# Altium footprint library power.PcbLib: 38 footprints (part 1 of 3)
Each footprint in its own frame and in the unit in brackets; x right, y up, seen from the top. Pads: shape width x height; smd on the part's side, far side on the other; paste and mask are expansions set on the pad; w line width, h text height; cw(c..) or ccw(c..) is an arc to the next point about the centre after c.
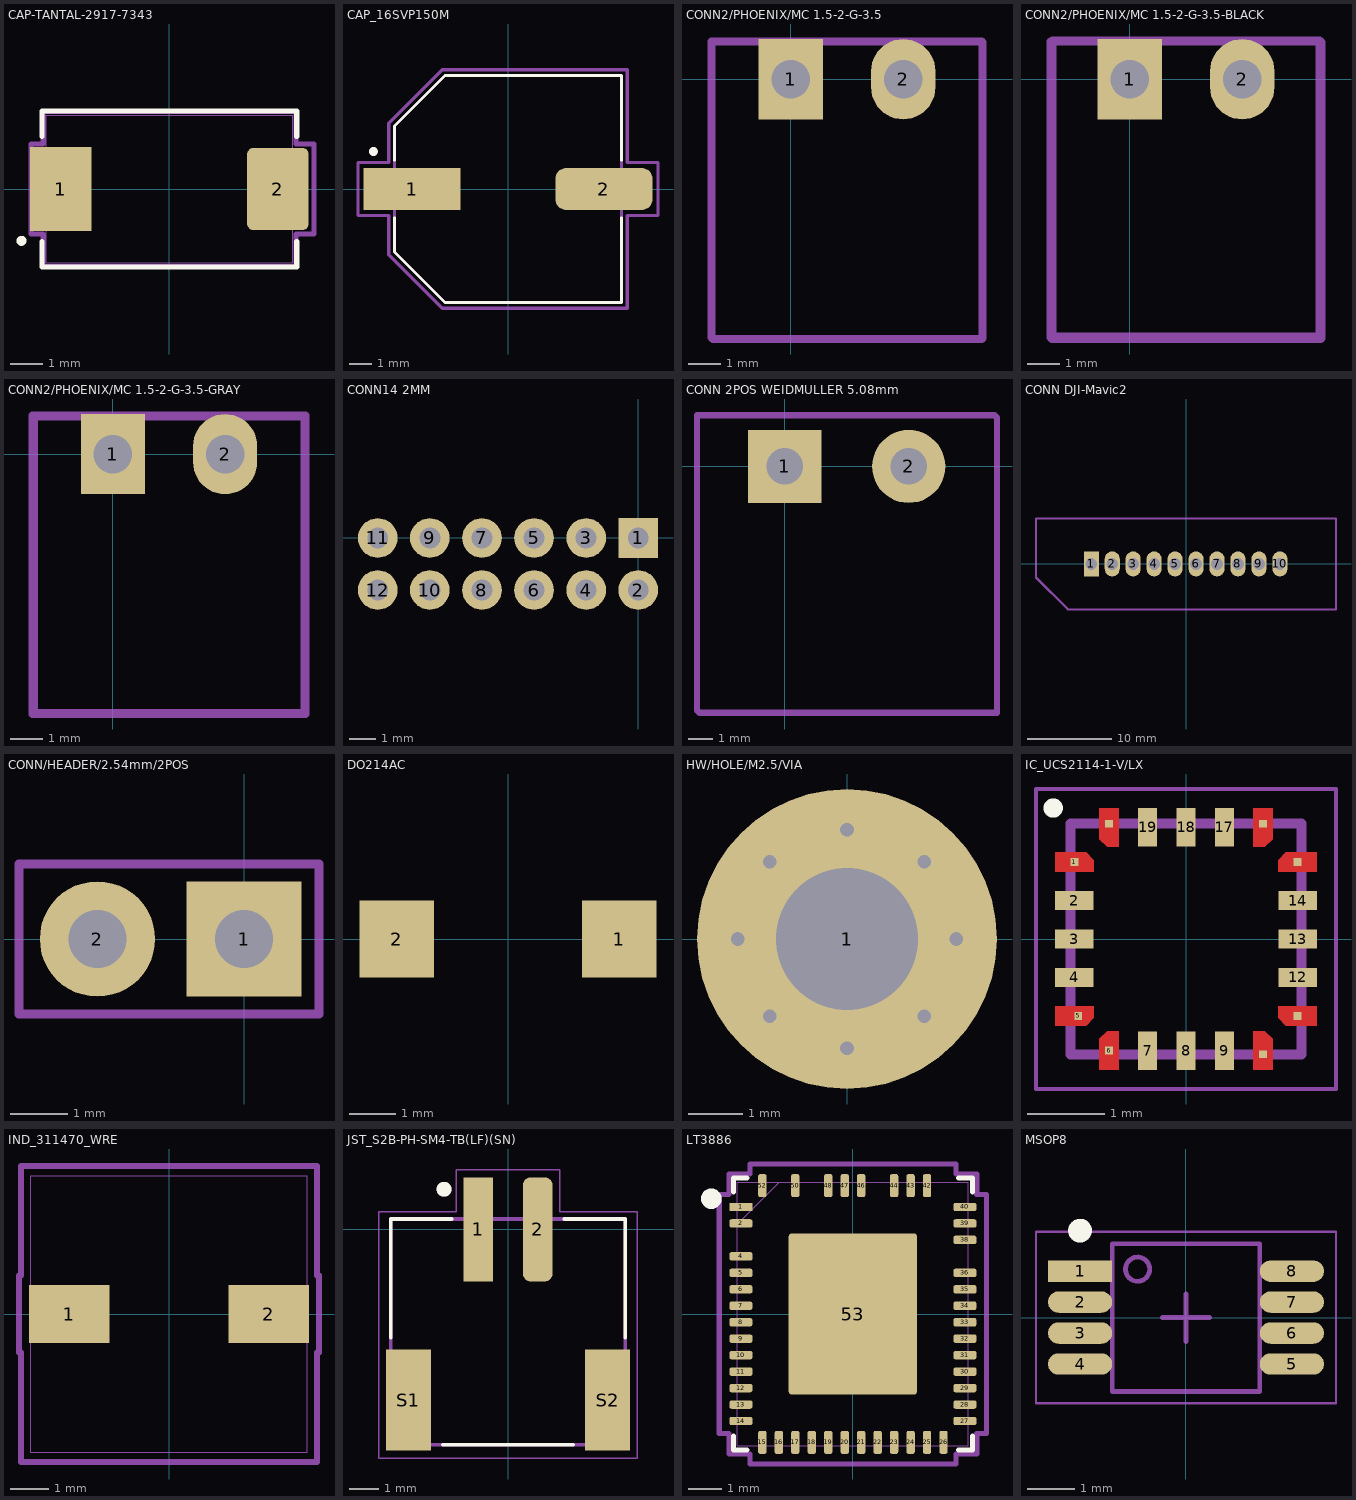
[diagram p0: the footprints below, top view; thin cyan lines are the x and y axes]

## CAP-TANTAL-2917-7343 [mm]
pads (2):
  rect 1.87x2.541 smd paste+0 mask+0: 1(-3.3,0)
  rrect20% 1.87x2.5 smd paste+0 mask+0: 2(3.3,0)
Top Overlay:
  circle w0.152: c-4.496,-1.575 r0.076
  lines w0.152: -3.873,-1.598 -3.873,-2.375 3.873,-2.375 3.873,-1.598 ; -3.873,1.598 -3.873,2.375 3.873,2.375 3.873,1.598
Top 3D Body:
  circle w0: c-3.492,0 r0.076
  lines w0.025: -3.746,-2.248 -3.746,2.248 3.746,2.248 3.746,-2.248 -3.746,-2.248
Top Courtyard:
  lines w0.152: -4.2,-1.372 -3.848,-1.372 -3.848,-2.349 3.848,-2.349 3.848,-1.372 4.4,-1.372 4.4,1.372 3.848,1.372 3.848,2.349 -3.848,2.349 -3.848,1.372 -4.2,1.372 -4.2,-1.372
Top Designator:
  text ".Designator" at -4.199,0.167 h0.7
3D body "User Library-AVX_D_CASE.step": height 3.01, standoff 0, extent -3.7,-2.225 3.7,2.225

## CAP_16SVP150M [mm]
pads (2):
  rect 4.4x1.9 smd: 1(-4.35,0)
  rrect50% 4.4x1.9 smd: 2(4.35,0)
Top Overlay:
  circle w0.2: c-6.1,1.7 r0.1
  lines w0.127: -5.15,-1.3 -5.15,-2.85 -2.85,-5.15 5.15,-5.15 5.15,-1.3 ; -5.15,1.3 -5.15,2.85 -2.85,5.15 5.15,5.15 5.15,1.3
Top 3D Body:
  circle w0.2: c-6.1,1.7 r0.1
  lines w0.127: -5.15,-2.85 -2.85,-5.15 5.15,-5.15 5.15,5.15 -2.85,5.15 -5.15,2.85 -5.15,-2.85
Top Courtyard:
  lines w0.15: -6.8,-1.2 -5.4,-1.2 -5.4,-2.975 -2.975,-5.4 5.4,-5.4 5.4,-1.2 6.8,-1.2 6.8,1.2 5.4,1.2 5.4,5.4 -2.975,5.4 -5.4,2.975 -5.4,1.2 -6.8,1.2 -6.8,-1.2
Top Designator:
  text ".Designator" at -7.618,-0.508 h1.52
3D body "16SVP150M.STEP": height 7.9, standoff 0, extent -5.5,-5.15 5.5,5.15

## CONN2/PHOENIX/MC 1.5-2-G-3.5 [mm]
pads (2):
  rect 2x2.5 hole 1.2: 1(0,0)
  oval 2x2.5 hole 1.2: 2(3.5,0)
Mechanical 11:
  lines w0.254: -2.464,-8.026 -2.413,-8.077 ; 5.944,-8.077 5.969,-8.052 ; 5.944,1.168 5.969,1.143
Top Courtyard:
  lines w0.254: -2.464,-8.026 -2.464,1.168 ; -2.413,-8.077 5.944,-8.077 ; -2.413,1.168 5.944,1.168 ; 5.969,-8.052 5.969,1.143
Top Designator:
  text ".Designator" at -5.865,-3.934 h1.52
3D body "pxc_1844210_05_MC-1-5-2-G-3-5_3D.stp": height 7.25, standoff -3.4, extent -2.413,-8.029 5.987,1.171

## CONN2/PHOENIX/MC 1.5-2-G-3.5-BLACK [mm]
pads (2):
  rect 2x2.5 hole 1.2: 1(0,0)
  oval 2x2.5 hole 1.2: 2(3.5,0)
Mechanical 11:
  lines w0.254: -2.464,-8.026 -2.413,-8.077 ; 5.944,-8.077 5.969,-8.052 ; 5.944,1.168 5.969,1.143
Top 3D Body:
  lines w0.254: -2.4,-8 5.9,-8 5.9,1.2 -2.4,1.2 -2.4,-8
Top Courtyard:
  lines w0.254: -2.464,-8.026 -2.464,1.168 ; -2.413,-8.077 5.944,-8.077 ; -2.413,1.168 5.944,1.168 ; 5.969,-8.052 5.969,1.143
Top Designator:
  text ".Designator" at -1.746,-3.66 h0.7
3D body "pxc_1844210_05_MC-1-5-2-G-3-5_3Dblack.STEP": height 7.25, standoff -3.4, extent -2.439,-8 5.961,1.2

## CONN2/PHOENIX/MC 1.5-2-G-3.5-GRAY [mm]
pads (2):
  rect 2x2.5 hole 1.2: 1(0,0)
  oval 2x2.5 hole 1.2: 2(3.5,0)
Mechanical 11:
  lines w0.254: -2.464,-8.026 -2.413,-8.077 ; 5.944,-8.077 5.969,-8.052 ; 5.944,1.168 5.969,1.143
Top 3D Body:
  lines w0.254: -2.5,-8.1 6,-8.1 6,1.2 -2.5,1.2 -2.5,-8.1
Top Courtyard:
  lines w0.254: -2.464,-8.026 -2.464,1.168 ; -2.413,-8.077 5.944,-8.077 ; -2.413,1.168 5.944,1.168 ; 5.969,-8.052 5.969,1.143
Top Designator:
  text ".Designator" at -1.746,-3.66 h0.7
3D body "pxc_1844210_05_MC-1-5-2-G-3-5_3D.STEP": height 7.25, standoff -3.4, extent -2.5,-8 5.9,1.2

## CONN14 2MM [mm] "98414-G06-12ULF"
pads (12):
  rect 1.524x1.524 hole 0.8: 1(0,0)
  round 1.524 hole 0.8: 2(0,-2) 3(-2,0) 4(-2,-2) 5(-4,0) 6(-4,-2) 7(-6,0) 8(-6,-2) 9(-8,0) 10(-8,-2) 11(-10,0) 12(-10,-2)
Top Designator:
  text ".Designator" at -12.618,-1.558 h1.52
3D body "AMPHENOL s98414-x06-12LF.STEP": height 5.85, standoff -2.5, extent -12,-4.1 2,2

## CONN 2POS WEIDMULLER 5.08mm [mm]
pads (2):
  rect 3x3 hole 1.5: 1(0,0)
  round 3 hole 1.5: 2(5.08,0)
Top Courtyard:
  lines w0.254: -3.6,-10 -3.5,-10.1 8.7,-10.1 8.7,2 8.6,2.1 -3.6,2.1 -3.6,-10
Top Designator:
  text ".Designator" at -0.949,-4.233 h0.7
3D body "1241060000.stp": height 9.4, standoff -3.2, extent -3.6,-10 8.56,2

## CONN DJI-Mavic2 [mm]
pads (10):
  rect 1.8x3 hole 1.4 mask+0.1: 1(-11.3,0)
  oval 1.8x3 hole 1.4 mask+0.1: 2(-8.8,0) 3(-6.3,0) 4(-3.8,0) 5(-1.3,0) 6(1.2,0) 7(3.7,0) 8(6.2,0) 9(8.7,0) 10(11.2,0)
Mechanical 11:
  text ".designator" at -13.6,-4.9 h1
Top 3D Body:
  lines w0.2: -17.9,-1.55 -14,-5.45 17.9,-5.45 17.9,5.425 -17.9,5.425 -17.9,-1.55
Top Courtyard:
  lines w0.2: -17.9,-1.7 -14.15,-5.45 17.9,-5.45 17.9,5.425 -17.9,5.425 -17.9,-1.7
Top Designator:
  text ".Designator" at -7.318,-3.508 h1.52
3D body "MSD-DB05M-10P.STEP": height 7.5, standoff -3.5, extent -17.875,-5.325 17.925,5.375

## CONN/HEADER/2.54mm/2POS [mm]
pads (2):
  rect 2x2 hole 1: 1(0,0)
  round 2 hole 1: 2(-2.54,0)
Top Courtyard:
  lines w0.15: -3.9,-1.3 -3.9,1.3 1.3,1.3 1.3,-1.3 -3.9,-1.3
Top Designator:
  text ".Designator" at -4.799,1.867 h0.7
3D body "99887.STEP": height 8.38, standoff -2.54, extent -3.937,-1.27 1.27,1.27

## DO214AC [mm]
pads (2):
  rect 1.6x1.67 smd: 1(2.4,0) 2(-2.4,0)
Top Designator:
  text ".Designator" at -7.618,-0.508 h1.52
3D body "DO214AC.STEP": height 2.17, standoff 0.03, extent -2.629,-1.333 2.477,1.334

## HW/HOLE/M2.5/VIA [mm]
pads (1):
  round 5.5 hole 2.6: 1(0,0)
via -1.414,-1.414 diameter 0.6 hole 0.25
via 1.414,-1.414 diameter 0.6 hole 0.25
via 1.414,1.414 diameter 0.6 hole 0.25
via -1.414,1.414 diameter 0.6 hole 0.25
via -2,0 diameter 0.6 hole 0.25
via 0,-2 diameter 0.6 hole 0.25
via 2,0 diameter 0.6 hole 0.25
via 0,2 diameter 0.6 hole 0.25
Top Designator:
  text ".Designator" at -7.618,-0.508 h1.52

## IC_UCS2114-1-V/LX [mm]
pads (20):
  rect 0.1x0.1 smd paste-1 mask+0: 1(-1.45,1) 5(-1.4,-1) 6(-1,-1.45) 10(1,-1.5) 11(1.45,-1) 15(1.45,1) 16(1,1.5) 20(-1,1.5)
  rect 0.5x0.25 smd paste-1: 2(-1.45,0.5) 3(-1.45,0) 4(-1.45,-0.5) 12(1.45,-0.5) 13(1.45,0) 14(1.45,0.5)
  rect 0.25x0.5 smd paste-1: 7(-0.5,-1.45) 8(0,-1.45) 9(0.5,-1.45) 17(0.5,1.45) 18(0,1.45) 19(-0.5,1.45)
Top Layer:
  region: -1.2,1.025 -1.2,0.875 -1.7,0.875 -1.7,1.125 -1.3,1.125
  region: -0.875,1.2 -1.025,1.2 -1.125,1.3 -1.125,1.7 -0.875,1.7
  region: -0.875,-1.7 -1.125,-1.7 -1.125,-1.3 -1.025,-1.2 -0.875,-1.2
  region: -1.2,-1.025 -1.3,-1.125 -1.7,-1.125 -1.7,-0.875 -1.2,-0.875
  region: 1.7,-1.125 1.3,-1.125 1.2,-1.025 1.2,-0.875 1.7,-0.875
  region: 1.125,-1.3 1.125,-1.7 0.875,-1.7 0.875,-1.2 1.025,-1.2
  region: 1.125,1.3 1.025,1.2 0.875,1.2 0.875,1.7 1.125,1.7
  region: 1.7,0.875 1.2,0.875 1.2,1.025 1.3,1.125 1.7,1.125
Top Overlay:
  circle w0.2: c-1.727,1.702 r0.025
Top Paste:
  region: 1.65,-0.125 1.2,-0.125 1.2,0.125 1.65,0.125
  region: -0.875,1.25 -1.025,1.25 -1.125,1.35
  region: -0.875,1.2 -1.025,1.2 -1.125,1.3 -1.125,1.65 -0.875,1.65
  region: -1.2,1.025 -1.2,0.875 -1.65,0.875 -1.65,1.125 -1.3,1.125
  region: -1.2,-1.025 -1.3,-1.125 -1.65,-1.125 -1.65,-0.875 -1.2,-0.875
  region: -0.875,-1.65 -1.125,-1.65 -1.125,-1.3 -1.025,-1.2 -0.875,-1.2
  region: 1.125,-1.3 1.125,-1.65 0.875,-1.65 0.875,-1.2 1.025,-1.2
  region: 1.65,-1.125 1.3,-1.125 1.2,-1.025 1.2,-0.875 1.65,-0.875
  region: 1.65,0.875 1.2,0.875 1.2,1.025 1.3,1.125 1.65,1.125
  region: 1.65,0.875 1.35,1.125 1.65,1.125
  region: 1.125,1.3 1.025,1.2 0.875,1.2 0.875,1.65 1.125,1.65
  region: 1.65,-0.625 1.2,-0.625 1.2,-0.375 1.65,-0.375
  region: 1.65,0.375 1.2,0.375 1.2,0.625 1.65,0.625
  region: 0.125,1.2 -0.125,1.2 -0.125,1.65 0.125,1.65
  region: 0.625,1.2 0.375,1.2 0.375,1.65 0.625,1.65
  region: -0.375,1.2 -0.625,1.2 -0.625,1.65 -0.375,1.65
  region: -1.2,-0.125 -1.65,-0.125 -1.65,0.125 -1.2,0.125
  region: -1.2,0.375 -1.65,0.375 -1.65,0.625 -1.2,0.625
  region: -1.2,-0.625 -1.65,-0.625 -1.65,-0.375 -1.2,-0.375
  region: 0.125,-1.65 -0.125,-1.65 -0.125,-1.2 0.125,-1.2
  region: -0.375,-1.65 -0.625,-1.65 -0.625,-1.2 -0.375,-1.2
  region: 0.625,-1.65 0.375,-1.65 0.375,-1.2 0.625,-1.2
Top Solder:
  region: -1.1,1.02 -1.1,0.81 -1.8,0.81 -1.8,1.18 -1.27,1.18
  region: -0.8,1.1 -1.04,1.1 -1.2,1.27 -1.2,1.8 -0.8,1.8
  region: -0.81,-1.8 -1.18,-1.8 -1.18,-1.3 -1.18,-1.27 -1.02,-1.1 -0.81,-1.1
  region: -1.1,-1.04 -1.27,-1.2 -1.8,-1.2 -1.8,-0.8 -1.1,-0.8
  region: 1.8,-1.18 1.27,-1.18 1.1,-1.02 1.1,-0.81 1.8,-0.81
  region: 1.2,-1.27 1.2,-1.8 0.8,-1.8 0.8,-1.1 1.04,-1.1
  region: 1.18,1.3 1.18,1.27 1.02,1.1 0.81,1.1 0.81,1.8 1.18,1.8
  region: 1.8,0.8 1.1,0.8 1.1,1.04 1.27,1.2 1.8,1.2
Top 3D Body:
  lines w0.127: -1.5,-1.5 -1.5,1.5 1.5,1.5 1.5,-1.5 -1.5,-1.5
Top Courtyard:
  lines w0.05: -1.95,-1.95 1.95,-1.95 1.95,1.95 -1.95,1.95 -1.95,-1.95
3D body "step_temp.STEP": height 0.9, standoff 0, extent -1.5,-1.5 1.5,1.5

## IND_311470_WRE [mil]
pads (2):
  rect 82.5x59 smd paste+0 mask+0: 1(-102.25,0) 2(102.25,0)
Top 3D Body:
  circle w0: c-138.5,0 r3
  lines w1: -141.5,-141.5 141.5,-141.5 141.5,141.5 -141.5,141.5 -141.5,-141.5
Top Courtyard:
  lines w6: -153.5,-39.5 -153.5,39.5 -151.5,39.5 -151.5,151.5 151.5,151.5 151.5,39.5 153.5,39.5 153.5,-39.5 151.5,-39.5 151.5,-151.5 -151.5,-151.5 -151.5,-39.5 -153.5,-39.5
Top Designator:
  text ".Designator" at -149.25,-9.18 h27.56
3D body "744311022_Download_STP_WE-HCI-7040_rev1.STEP": height 157.48, standoff 0.05, extent -140.59,-135.83 135,135.83

## JST_S2B-PH-SM4-TB(LF)(SN) [mm]
pads (4):
  rect 1x3.5 smd: 1(-1,0)
  rrect50% 1x3.5 smd: 2(1,0)
  rect 1.5x3.4 smd: S1(-3.35,-5.75) S2(3.35,-5.75)
Top Overlay:
  circle w0.3: c-2.15,1.35 r0.1
  lines w0.127: -3.95,-3.65 -3.95,0.35 -1.9,0.35 ; -2.2,-7.25 2.2,-7.25 ; 1.9,0.35 3.95,0.35 3.95,-3.65
Top 3D Body:
  circle w0.3: c-2.15,1.35 r0.1
  lines w0.127: -3.95,-7.25 3.95,-7.25 3.95,0.35 -3.95,0.35 -3.95,-7.25
Top Courtyard:
  lines w0.05: -4.35,-7.7 4.35,-7.7 4.35,0.6 1.75,0.6 1.75,2 -1.75,2 -1.75,0.6 -4.35,0.6 -4.35,-7.7
3D body "S2B-PH-SM4-TB(LF)(SN)--3DModel-STEP-56544.STEP": height 5.55, standoff -0.05, extent -3.95,-7.366 3.95,1.234

## LT3886 [mm]
pads (47):
  rect 0.7x0.255 smd paste+0 mask+0: 1(-3.401,3.25)
  rrect50% 0.7x0.255 smd paste+0 mask+0: 2(-3.401,2.75) 4(-3.401,1.75) 5(-3.401,1.25) 6(-3.401,0.75) 7(-3.401,0.25) 8(-3.401,-0.25) 9(-3.401,-0.75) 10(-3.401,-1.25) 11(-3.401,-1.75) 12(-3.401,-2.25) 13(-3.401,-2.75) 14(-3.401,-3.25) 27(3.401,-3.25) 28(3.401,-2.75) 29(3.401,-2.25) 30(3.401,-1.75) 31(3.401,-1.25) 32(3.401,-0.75) 33(3.401,-0.25) 34(3.401,0.25) 35(3.401,0.75) 36(3.401,1.25) 38(3.401,2.25) 39(3.401,2.75) 40(3.401,3.25)
  rrect50% 0.255x0.7 smd paste+0 mask+0: 15(-2.75,-3.896) 16(-2.25,-3.896) 17(-1.75,-3.896) 18(-1.25,-3.896) 19(-0.75,-3.896) 20(-0.25,-3.896) 21(0.25,-3.896) 22(0.75,-3.896) 23(1.25,-3.896) 24(1.75,-3.896) 25(2.25,-3.896) 26(2.75,-3.896) 42(2.25,3.896) 43(1.75,3.896) 44(1.25,3.896) 46(0.25,3.896) 47(-0.25,3.896) 48(-0.75,3.896) 50(-1.75,3.896) 52(-2.75,3.896)
  rrect5% 3.9x4.9 smd paste-2.832 mask+0: 53(0,0)
Top Overlay:
  circle w0.381: c-4.3,3.5 r0.12
  lines w0.152: -3.632,-3.71 -3.632,-4.127 -3.21,-4.127 ; -3.632,3.71 -3.632,4.127 -3.21,4.127 ; 3.21,-4.127 3.632,-4.127 3.632,-3.71 ; 3.21,4.127 3.632,4.127 3.632,3.71
Top Paste:
  region: 1.783,-1.1 0.417,-1.1 0.417,-2.322 1.783,-2.322
  region: 1.8,0.611 0.434,0.611 0.434,-0.611 1.8,-0.611
  region: 1.8,2.311 0.434,2.311 0.434,1.089 1.8,1.089
  region: -0.4,-1.089 -1.766,-1.089 -1.766,-2.311 -0.4,-2.311
  region: -0.417,0.622 -1.783,0.622 -1.783,-0.6 -0.417,-0.6
  region: -0.417,2.322 -1.783,2.322 -1.783,1.1 -0.417,1.1
Top 3D Body:
  lines w0.025: -3.505,2.73 -2.235,4 ; -3.505,-4 -3.505,4 3.505,4 3.505,-4 -3.505,-4 ; -3.505,-3.402 -3.505,-3.098 -3.505,-3.402 ; -3.505,-2.902 -3.505,-2.598 -3.505,-2.902 ; -3.505,-2.402 -3.505,-2.098 -3.505,-2.402 ; -3.505,-1.902 -3.505,-1.598 -3.505,-1.902 ; -3.505,-1.402 -3.505,-1.098 -3.505,-1.402 ; -3.505,-0.902 -3.505,-0.598 -3.505,-0.902 ; -3.505,-0.402 -3.505,-0.098 -3.505,-0.402 ; -3.505,0.098 -3.505,0.402 -3.505,0.098 ; -3.505,0.598 -3.505,0.902 -3.505,0.598 ; -3.505,1.098 -3.505,1.402 -3.505,1.098 ; -3.505,1.598 -3.505,1.902 -3.505,1.598 ; -3.505,2.098 -3.505,2.402 -3.505,2.098 ; -3.505,2.598 -3.505,2.902 -3.505,2.598 ; -3.505,3.098 -3.505,3.402 -3.505,3.098 ; -2.902,-4 -2.598,-4 -2.902,-4 ; -2.902,4 -2.598,4 -2.902,4 ; -2.402,-4 -2.098,-4 -2.402,-4 ; -2.402,4 -2.098,4 -2.402,4 ; -1.902,-4 -1.598,-4 -1.902,-4 ; -1.902,4 -1.598,4 -1.902,4 ; -1.402,-4 -1.098,-4 -1.402,-4 ; -1.402,4 -1.098,4 -1.402,4 ; -0.902,-4 -0.598,-4 -0.902,-4 ; -0.902,4 -0.598,4 -0.902,4 ; -0.402,-4 -0.098,-4 -0.402,-4 ; -0.402,4 -0.098,4 -0.402,4 ; 0.098,-4 0.402,-4 0.098,-4 ; 0.098,4 0.402,4 0.098,4 ; 0.598,-4 0.902,-4 0.598,-4 ; 0.598,4 0.902,4 0.598,4 ; 1.098,-4 1.402,-4 1.098,-4 ; 1.098,4 1.402,4 1.098,4 ; 1.598,-4 1.902,-4 1.598,-4 ; 1.598,4 1.902,4 1.598,4 ; 2.098,-4 2.402,-4 2.098,-4 ; 2.098,4 2.402,4 2.098,4 ; 2.598,-4 2.902,-4 2.598,-4 ; 2.598,4 2.902,4 2.598,4 ; 3.505,-3.402 3.505,-3.098 3.505,-3.402 ; 3.505,-2.902 3.505,-2.598 3.505,-2.902 ; 3.505,-2.402 3.505,-2.098 3.505,-2.402 ; 3.505,-1.902 3.505,-1.598 3.505,-1.902 ; 3.505,-1.402 3.505,-1.098 3.505,-1.402 ; 3.505,-0.902 3.505,-0.598 3.505,-0.902 ; 3.505,-0.402 3.505,-0.098 3.505,-0.402 ; 3.505,0.098 3.505,0.402 3.505,0.098 ; 3.505,0.598 3.505,0.902 3.505,0.598 ; 3.505,1.098 3.505,1.402 3.505,1.098 ; 3.505,1.598 3.505,1.902 3.505,1.598 ; 3.505,2.098 3.505,2.402 3.505,2.098 ; 3.505,2.598 3.505,2.902 3.505,2.598 ; 3.505,3.098 3.505,3.402 3.505,3.098
Top Courtyard:
  lines w0.152: -4.059,-3.631 -4.059,3.631 -3.759,3.631 -3.759,4.255 -3.131,4.255 -3.131,4.554 3.131,4.554 3.131,4.255 3.759,4.255 3.759,3.631 4.059,3.631 4.059,-3.631 3.759,-3.631 3.759,-4.255 3.131,-4.255 3.131,-4.554 -3.131,-4.554 -3.131,-4.255 -3.759,-4.255 -3.759,-3.631 -4.059,-3.631
Top Designator:
  text ".Designator" at -4.029,-0.233 h0.7
3D body "LTC3886.STEP": height 0.75, standoff -0.05, extent -3.55,-4.05 3.55,4.05

## MSOP8 [mm] "TSOP, 8-Leads, Body 3.00x3.00mm, Pitch 0.65mm, IPC Medium Density"
height 0.95
pads (8):
  rect 1.35x0.45 smd: 1(-2.225,0.975)
  oval 1.35x0.45 smd: 2(-2.225,0.325) 3(-2.225,-0.325) 4(-2.225,-0.975) 5(2.225,-0.975) 6(2.225,-0.325) 7(2.225,0.325) 8(2.225,0.975)
Top Overlay:
  circle w0.25: c-2.225,1.825 r0.125
Top 3D Body:
  circle w0.1: c-1.016,1.016 r0.254
  lines w0.1: -1.55,-1.55 1.55,-1.55 1.55,1.55 -1.55,1.55 -1.55,-1.55
Top Courtyard:
  lines w0.05: -3.15,-1.8 3.15,-1.8 3.15,1.8 -3.15,1.8 -3.15,-1.8
  lines w0.1: -0.5,0 0.5,0 ; 0,-0.5 0,0.5
3D body "TSOP65P490X95-8N.step": height 0.95, standoff 0, extent -2.45,-1.55 2.45,1.55